# EAGLE library part RJ8-8 (library ACB)
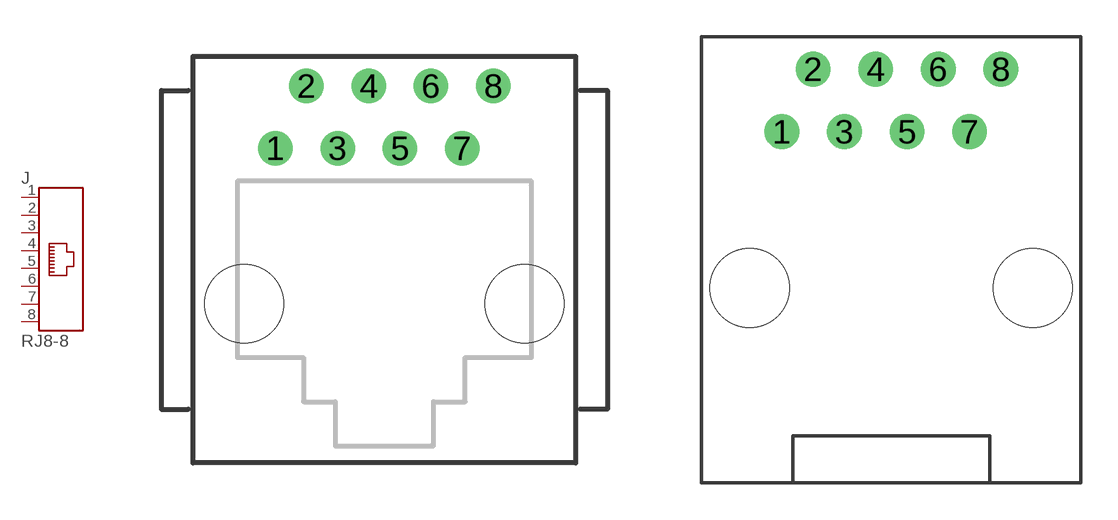
[diagram p9: symbol with the pads of RJ8-8-180; footprints RJ8-8-180, RJ8-8-90-DOWN]

Designator prefix J

## RJ8-8-180  [RJ8-8-180]
1  1  pas
2  2  pas
3  3  pas
4  4  pas
5  5  pas
6  6  pas
7  7  pas
8  8  pas

## RJ8-8-90-DOWN  [RJ8-8-90-DOWN]
Pads as for RJ8-8-180

## Footprint RJ8-8-180 (pad centres in mm)
24.1.18 doladeny rozmery na maximum pres nekolik typu
drill 0.9 pad 1.4: 1 -4.445,6.35; 2 -3.175,8.89; 3 -1.905,6.35; 4 -0.635,8.89; 5 0.635,6.35; 6 1.905,8.89; 7 3.175,6.35; 8 4.445,8.89
hole 3.2 at 5.715,0
hole 3.2 at -5.715,0

## Footprint RJ8-8-90-DOWN (pad centres in mm)
24.1.18 doladeny rozmery na maximum pres nekolik typu
drill 0.9 pad 1.4: 1 -4.445,6.35; 2 -3.175,8.89; 3 -1.905,6.35; 4 -0.635,8.89; 5 0.635,6.35; 6 1.905,8.89; 7 3.175,6.35; 8 4.445,8.89
hole 3.2 at 5.75,0
hole 3.2 at -5.75,0